# Altium integrated library slide_switches.IntLib: 5 symbols
Pins are listed as number, name and electrical type; pins without a type are passive.

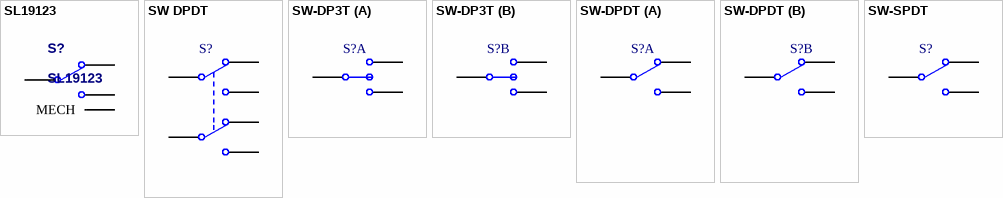
[diagram p0: symbols SL19123 to SW-SPDT]

## SL19123
designator S?
Canal Electronic SPDT AC: 3A/250V, DC: 6A/28V
footprint 500SSPxS1M6xEA (E-Switch 500 Series Miniature Slide Switche (TME: Canal Electronic, SL19123))
pins: 1, 2, 3, M MECH

## SW DPDT
designator S?
Switch; Published: 24-Mar-1999; LatestRevisionDate: 29-May-2009; LatestRevisionNote: IPC-7351 Footprint Added.; PackageVersion: Mar-2001; PackageReference: SOT23-6; Publisher: Altium Limited; PackageDescription: 6-Pin SOT-23 Package 0.95 mm Pitch, 2.7 mm Lead Span; Code_JEITA: SC-74; Code_IPC: SOT26A-6
pins: 1 COMMON1, 2 NC1, 3 NO1, 4 NC2, 5 COMMON2, 6 NO2

## SW-DP3T
designator S?
Double-Pole, Triple-Throw Switch; Published: 24-Mar-1999; Revision: July-2002: Re-released for DXP Platform.; Publisher: Altium Limited
part A pins: 1, 2, 3
part B pins: 4, 5, 6

## SW-DPDT
designator S?
Double-Pole, Double-Throw Switch; Published: 24-Mar-1999; Revision: July-2002: Re-released for DXP Platform.; Publisher: Altium Limited
part A pins: 1 COMMON1, 2 NC1, 3 NO1
part B pins: 4 NC2, 5 COMMON2, 6 NO2

## SW-SPDT
designator S?
Single-Pole, Double-Throw Switch; Published: 24-Mar-1999; Revision: July-2002: Re-released for DXP Platform.; Publisher: Altium Limited
footprint SW_SPDT_MINI
footprint ESP2010 (Sliding switch, right angle, SPDT)
pins: 1, 2, 3